# Altium schematic symbol library STMicroelectronics STM32 L0.SchLib: 1 symbol
Pins are listed as number, name and electrical type; pins without a type are passive.

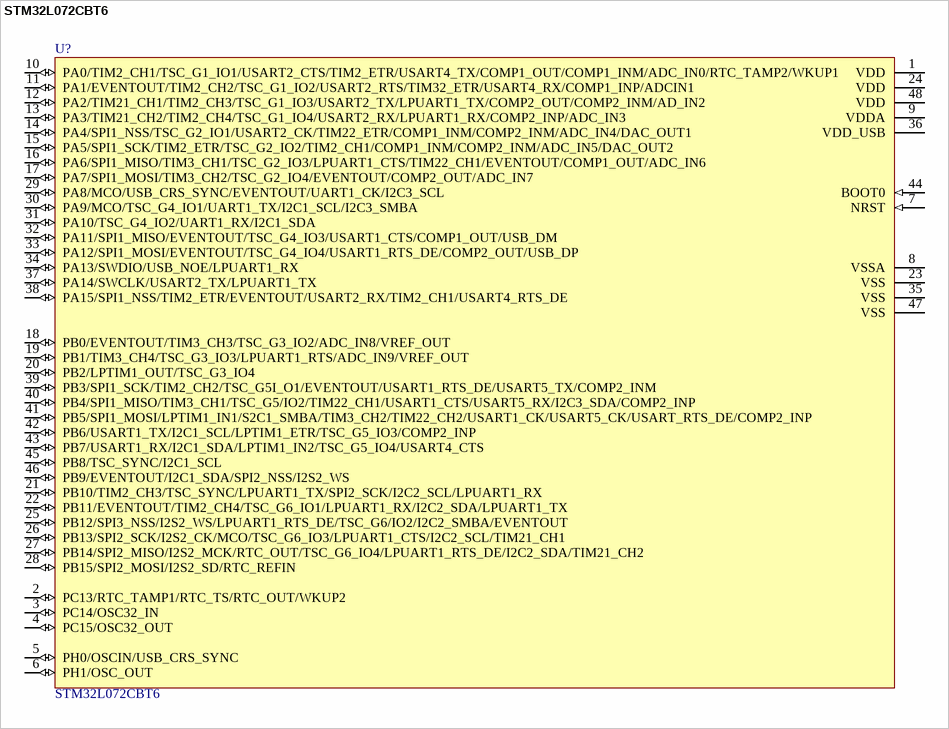
[diagram p0: symbol STM32L072CBT6]

## STM32L072CBT6
designator U?
IC MCU 32BIT 128KB FLASH 48LQFP; Manufacturer: STMicroelectronics; Supplier 1: Digi-Key; Manufacturer Part Number: STM32L072CBT6; Stock 1: 3529; Pricing 1: 1 = 3,74000, 10 = 3,36100, 100 = 2,75340, 500 = 2,34392, 1000 = 1,97680 (USD); Value: STM32L072CBT6; Supplier Part Number 1: 497-17503-ND
footprint LQFP48 7x7 (LQFP48 - 48-pin, 7 x 7 mm low-profile quad flat package)
pins: 1 VDD, 2 PC13/RTC_TAMP1/RTC_TS/RTC_OUT/WKUP2 (io), 3 PC14/OSC32_IN (io), 4 PC15/OSC32_OUT (io), 5 PH0/OSCIN/USB_CRS_SYNC (io), 6 PH1/OSC_OUT (io), 7 NRST (in), 8 VSSA, 9 VDDA, 10 PA0/TIM2_CH1/TSC_G1_IO1/USART2_CTS/TIM2_ETR/USART4_TX/COMP1_OUT/COMP1_INM/ADC_IN0/RTC_TAMP2/WKUP1 (io), 11 PA1/EVENTOUT/TIM2_CH2/TSC_G1_IO2/USART2_RTS/TIM32_ETR/USART4_RX/COMP1_INP/ADCIN1 (io), 12 PA2/TIM21_CH1/TIM2_CH3/TSC_G1_IO3/USART2_TX/LPUART1_TX/COMP2_OUT/COMP2_INM/AD_IN2 (io), 13 PA3/TIM21_CH2/TIM2_CH4/TSC_G1_IO4/USART2_RX/LPUART1_RX/COMP2_INP/ADC_IN3 (io), 14 PA4/SPI1_NSS/TSC_G2_IO1/USART2_CK/TIM22_ETR/COMP1_INM/COMP2_INM/ADC_IN4/DAC_OUT1 (io), 15 PA5/SPI1_SCK/TIM2_ETR/TSC_G2_IO2/TIM2_CH1/COMP1_INM/COMP2_INM/ADC_IN5/DAC_OUT2 (io), 16 PA6/SPI1_MISO/TIM3_CH1/TSC_G2_IO3/LPUART1_CTS/TIM22_CH1/EVENTOUT/COMP1_OUT/ADC_IN6 (io), 17 PA7/SPI1_MOSI/TIM3_CH2/TSC_G2_IO4/EVENTOUT/COMP2_OUT/ADC_IN7 (io), 18 PB0/EVENTOUT/TIM3_CH3/TSC_G3_IO2/ADC_IN8/VREF_OUT (io), 19 PB1/TIM3_CH4/TSC_G3_IO3/LPUART1_RTS/ADC_IN9/VREF_OUT (io), 20 PB2/LPTIM1_OUT/TSC_G3_IO4 (io), 21 PB10/TIM2_CH3/TSC_SYNC/LPUART1_TX/SPI2_SCK/I2C2_SCL/LPUART1_RX (io), 22 PB11/EVENTOUT/TIM2_CH4/TSC_G6_IO1/LPUART1_RX/I2C2_SDA/LPUART1_TX (io), 23 VSS, 24 VDD, 25 PB12/SPI3_NSS/I2S2_WS/LPUART1_RTS_DE/TSC_G6/IO2/I2C2_SMBA/EVENTOUT (io), 26 PB13/SPI2_SCK/I2S2_CK/MCO/TSC_G6_IO3/LPUART1_CTS/I2C2_SCL/TIM21_CH1 (io), 27 PB14/SPI2_MISO/I2S2_MCK/RTC_OUT/TSC_G6_IO4/LPUART1_RTS_DE/I2C2_SDA/TIM21_CH2 (io), 28 PB15/SPI2_MOSI/I2S2_SD/RTC_REFIN (io), 29 PA8/MCO/USB_CRS_SYNC/EVENTOUT/UART1_CK/I2C3_SCL (io), 30 PA9/MCO/TSC_G4_IO1/UART1_TX/I2C1_SCL/I2C3_SMBA (io), 31 PA10/TSC_G4_IO2/UART1_RX/I2C1_SDA (io), 32 PA11/SPI1_MISO/EVENTOUT/TSC_G4_IO3/USART1_CTS/COMP1_OUT/USB_DM (io), 33 PA12/SPI1_MOSI/EVENTOUT/TSC_G4_IO4/USART1_RTS_DE/COMP2_OUT/USB_DP (io), 34 PA13/SWDIO/USB_NOE/LPUART1_RX (io), 35 VSS, 36 VDD_USB, 37 PA14/SWCLK/USART2_TX/LPUART1_TX (io), 38 PA15/SPI1_NSS/TIM2_ETR/EVENTOUT/USART2_RX/TIM2_CH1/USART4_RTS_DE (io), 39 PB3/SPI1_SCK/TIM2_CH2/TSC_G5I_O1/EVENTOUT/USART1_RTS_DE/USART5_TX/COMP2_INM (io), 40 PB4/SPI1_MISO/TIM3_CH1/TSC_G5/IO2/TIM22_CH1/USART1_CTS/USART5_RX/I2C3_SDA/COMP2_INP (io), 41 PB5/SPI1_MOSI/LPTIM1_IN1/S2C1_SMBA/TIM3_CH2/TIM22_CH2/USART1_CK/USART5_CK/USART_RTS_DE/COMP2_INP (io), 42 PB6/USART1_TX/I2C1_SCL/LPTIM1_ETR/TSC_G5_IO3/COMP2_INP (io), 43 PB7/USART1_RX/I2C1_SDA/LPTIM1_IN2/TSC_G5_IO4/USART4_CTS (io), 44 BOOT0 (in), 45 PB8/TSC_SYNC/I2C1_SCL (io), 46 PB9/EVENTOUT/I2C1_SDA/SPI2_NSS/I2S2_WS (io), 47 VSS, 48 VDD